# Altium schematic symbol library SD CARD.SchLib: 1 symbol
Pins are listed as number, name and electrical type; pins without a type are passive.

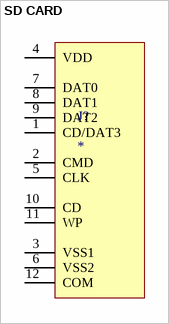
[diagram p0: symbol SD CARD]

## SD CARD
designator J?
pins: 1 CD/DAT3, 2 CMD, 3 VSS1, 4 VDD, 5 CLK, 6 VSS2, 7 DAT0, 8 DAT1, 9 DAT2, 10 CD, 11 WP, 12 COM